# Altium schematic symbol library 150uF Capacitor.SchLib: 1 symbol
Pins are listed as number, name and electrical type; pins without a type are passive.

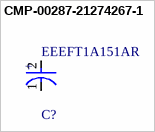
[diagram p0: symbol CMP-00287-21274267-1]

## CMP-00287-21274267-1
designator C?, comment EEEFT1A151AR
EEEFT1A151AR Aluminum Electrolytic Capacitor, 150 uF, 10 V, ± 20%, 2000 hours @ 105°C, Radial Can - SMD; NexarPartId: 21274267; Capacitance: 150µF; Voltage Rating: 10V; Leakage Current: 15µA; Ripple Current (AC): 240mA; Lead Diameter: 650µm; Dissipation Factor: 19%; ESR (Equivalent Series Resistance): 360mΩ; REACH SVHC: No SVHC; Max Operating Temperature: 105°C; Features: General Purpose; Height - Seated (Max): 6.096mm; Packaging: Cut Tape; Lead Pitch: 1.5mm; Case/Package: Radial; Height: 5.8mm; Contact Plating: Tin; Tolerance: 20%; Voltage Rating (DC): 10V; Lifecycle Status: Production; Schedule B: 8532220020, 8532220020|8532220020, 8532220020|8532220020|8532220020, 8532220020|8532220020|8532220020|8532220020; Ripple Current: 240mA; Radiation Hardening: No; Mount: Surface Mount; Min Operating Temperature: -55°C; Voltage: 10V; Length: 5.8mm; Termination: SMD/SMT; Life (Hours): 2000hours; Lead Free: Lead Free; Diameter: 5mm; RoHS: Compliant
footprint FP-FTC-MFG
pins: 1 C, 2 A
text: +